# Altium footprint library MMS-125-XX-L-DV.PcbLib: 2 footprints
Each footprint in its own frame and in the unit in brackets; x right, y up, seen from the top. Pads: shape width x height; smd on the part's side, far side on the other; paste and mask are expansions set on the pad; w line width, h text height; cw(c..) or ccw(c..) is an arc to the next point about the centre after c.
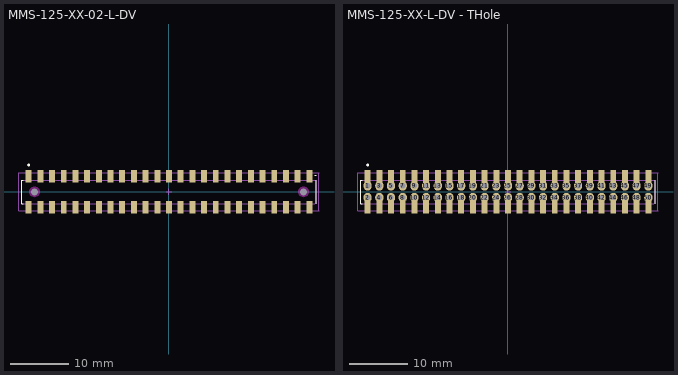
[diagram p0: the footprints below, top view; thin cyan lines are the x and y axes]

## MMS-125-XX-02-L-DV [mm] "2.00mm pitch, 50 pin, socket strip; double row, SMT"
height 6.35
pads (53):
  rect 1.02x2.16 smd mask+0: 1(-24.001,2.655) 2(-24.001,-2.655) 3(-22.001,2.655) 4(-22.001,-2.655) 5(-20.001,2.655) 6(-20.001,-2.655) 7(-18.001,2.655) 8(-18.001,-2.655) 9(-16.001,2.655) 10(-16.001,-2.655) 11(-14.001,2.655) 12(-14.001,-2.655) 13(-12.001,2.655) 14(-12.001,-2.655) 15(-10.001,2.655) 16(-10.001,-2.655) 17(-8.001,2.655) 18(-8.001,-2.655) 19(-6.001,2.655) 20(-6.001,-2.655) 21(-4.001,2.655) 22(-4.001,-2.655) 23(-2.001,2.655) 24(-2.001,-2.655) 25(-0.001,2.655) 26(-0.001,-2.655) 27(1.999,2.655) 28(1.999,-2.655) 28(1.999,-2.655) 29(3.999,2.655) 30(3.999,-2.655) 31(5.999,2.655) 32(5.999,-2.655) 33(7.999,2.655) 34(7.999,-2.655) 35(9.999,2.655) 36(9.999,-2.655) 37(11.999,2.655) 38(11.999,-2.655) 39(13.999,2.655) 40(13.999,-2.655) 41(15.999,2.655) 42(15.999,-2.655) 43(17.999,2.655) 44(17.999,-2.655) 45(19.999,2.655) 46(19.999,-2.655) 47(21.999,2.655) 48(21.999,-2.655) 49(23.999,2.655) 50(23.999,-2.655)
  round 1 hole 1.2 unplated mask+0: 51(-23.001,0) 52(22.999,0)
Top Overlay:
  circle w0.25: c-24.001,4.572 r0.125
  lines w0.2: -24.901,-2 -25.151,-2 -25.151,2 -24.901,2 ; 24.899,2.855 25.149,2.855 ; 25.149,-2 25.149,2
Keep-Out Layer:
  pour cut-out: 23.907,0 23.876,0.235 23.785,0.454 23.641,0.642 23.453,0.786 23.234,0.877 22.999,0.908 22.764,0.877 22.545,0.786 22.357,0.642 22.213,0.454 22.122,0.235 22.091,0 22.122,-0.235 22.213,-0.454 22.357,-0.642 22.545,-0.786 22.764,-0.877 22.999,-0.908 23.234,-0.877 23.453,-0.786 23.641,-0.642 23.785,-0.454 23.876,-0.235
  pour cut-out: -22.093,0 -22.124,0.235 -22.215,0.454 -22.359,0.642 -22.547,0.786 -22.766,0.877 -23.001,0.908 -23.236,0.877 -23.455,0.786 -23.643,0.642 -23.787,0.454 -23.878,0.235 -23.909,0 -23.878,-0.235 -23.787,-0.454 -23.643,-0.642 -23.455,-0.786 -23.236,-0.877 -23.001,-0.908 -22.766,-0.877 -22.547,-0.786 -22.359,-0.642 -22.215,-0.454 -22.124,-0.235
Mechanical 12:
  lines w0.001: 9.149,-2 -25.151,-2 -25.151,2 9.149,2 ; 25.149,-2 25.149,2
Mechanical 13:
  lines w0.1: 24.892,-2 -25.151,-2 -25.151,2 25.019,2 ; 25.149,-2 25.149,2
  text ".Designator" at 3.048,-0.635 h1.52
Mechanical 15:
  lines w0.05: -0.5,0 0.5,0 ; 0,-0.5 0,0.5 ; 25.649,-3.25 25.649,3.25 ; 25.654,-3.25 -25.651,-3.25 -25.651,3.25 25.654,3.25

## MMS-125-XX-L-DV - THole [mm] "2.00mm pitch, 50 pin, socket strip; double row, SMT"
height 6.35
pads (101):
  oval 1.4x1.6 / inner oval 1.2x2.5 / far side oval 1.4x1.6 hole 0.9: 1(-24.003,1.016) 2(-24.003,-0.984) 3(-22.003,1.016) 4(-22.003,-0.984) 5(-20.003,1.016) 6(-20.003,-0.984) 7(-18.003,1.016) 8(-18.003,-0.984) 9(-16.003,1.016) 10(-16.003,-0.984) 11(-14.003,1.016) 12(-14.003,-0.984) 13(-12.003,1.016) 14(-12.003,-0.984) 15(-10.003,1.016) 16(-10.003,-0.984) 17(-8.003,1.016) 18(-8.003,-0.984) 19(-6.003,1.016) 20(-6.003,-0.984) 21(-4.003,1.016) 22(-4.003,-0.984) 23(-2.003,1.016) 24(-2.003,-0.984) 25(-0.003,1.016) 26(-0.003,-0.984) 27(1.997,1.016) 28(1.997,-0.984) 29(3.997,1.016) 30(3.997,-0.984) 31(5.997,1.016) 32(5.997,-0.984) 33(7.997,1.016) 34(7.997,-0.984) 35(9.997,1.016) 36(9.997,-0.984) 37(11.997,1.016) 38(11.997,-0.984) 39(13.997,1.016) 40(13.997,-0.984) 41(15.997,1.016) 42(15.997,-0.984) 43(17.997,1.016) 44(17.997,-0.984) 45(19.997,1.016) 46(19.997,-0.984) 47(21.997,1.016) 48(21.997,-0.984) 49(23.997,1.016) 50(23.997,-0.984)
  rect 1.02x2.16 smd mask+0: 1(-24.001,2.655) 2(-24.001,-2.655) 3(-22.001,2.655) 4(-22.001,-2.655) 5(-20.001,2.655) 6(-20.001,-2.655) 7(-18.001,2.655) 8(-18.001,-2.655) 9(-16.001,2.655) 10(-16.001,-2.655) 11(-14.001,2.655) 12(-14.001,-2.655) 13(-12.001,2.655) 14(-12.001,-2.655) 15(-10.001,2.655) 16(-10.001,-2.655) 17(-8.001,2.655) 18(-8.001,-2.655) 19(-6.001,2.655) 20(-6.001,-2.655) 21(-4.001,2.655) 22(-4.001,-2.655) 23(-2.001,2.655) 24(-2.001,-2.655) 25(-0.001,2.655) 26(-0.001,-2.655) 27(1.999,2.655) 28(1.999,-2.655) 28(1.999,-2.655) 29(3.999,2.655) 30(3.999,-2.655) 31(5.999,2.655) 32(5.999,-2.655) 33(7.999,2.655) 34(7.999,-2.655) 35(9.999,2.655) 36(9.999,-2.655) 37(11.999,2.655) 38(11.999,-2.655) 39(13.999,2.655) 40(13.999,-2.655) 41(15.999,2.655) 42(15.999,-2.655) 43(17.999,2.655) 44(17.999,-2.655) 45(19.999,2.655) 46(19.999,-2.655) 47(21.999,2.655) 48(21.999,-2.655) 49(23.999,2.655) 50(23.999,-2.655)
Top Overlay:
  circle w0.25: c-24.001,4.572 r0.125
  lines w0.2: -24.901,-2 -25.151,-2 -25.151,2 -24.901,2 ; 25.149,-2 25.149,2
Mechanical 12:
  lines w0.001: 9.149,-2 -25.151,-2 -25.151,2 9.149,2 ; 25.149,-2 25.149,2
Mechanical 13:
  lines w0.1: 24.892,-2 -25.151,-2 -25.151,2 25.019,2 ; 25.149,-2 25.149,2
  text ".Designator" at 3.048,-0.635 h1.52
Mechanical 15:
  lines w0.05: -0.5,0 0.5,0 ; 0,-0.5 0,0.5 ; 25.649,-3.25 25.649,3.25 ; 25.654,-3.25 -25.651,-3.25 -25.651,3.25 25.654,3.25